# Altium schematic symbol library Schlib1.SchLib: 2 symbols
Pins are listed as number, name and electrical type; pins without a type are passive.

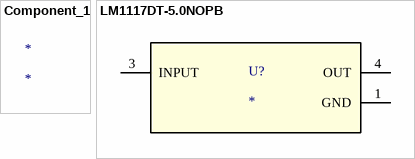
[diagram p0: symbols Component_1 to LM1117DT-5.0NOPB]

## Component_1
designator *

## LM1117DT-5.0NOPB
designator U?
No Description Available; Mfr_Name: Texas Instruments; TYPE: TYPE; RefDes: RefDes
footprint NDP0003B
pins: 1 GND (power), 3 INPUT (power), 4 OUT (power)